# EAGLE library part AS-ITM-00077 (library tinycircuits)
Telit JF2 GPS Module
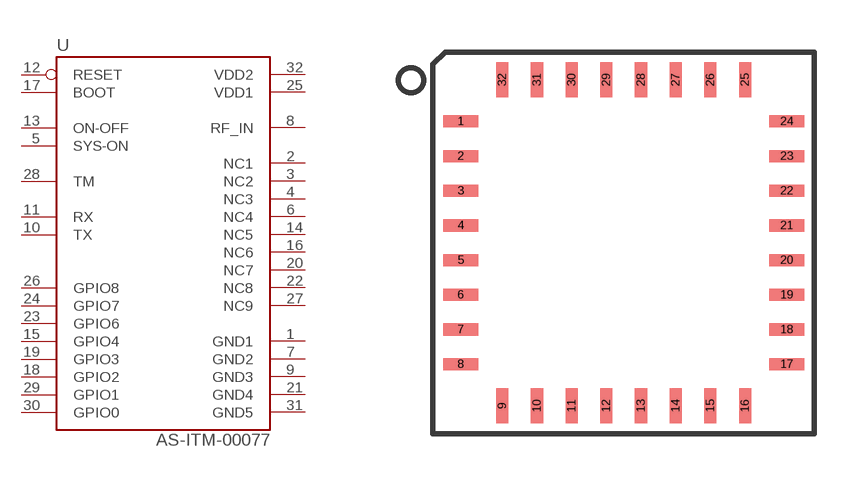
[diagram p28: symbol with the pads of JF2; footprint JF2]

Designator prefix U

## AS-ITM-00077 (PARTNO: AS-ITM-00077; VALUE: JF2)  [JF2]
1  GND1  pwr
2  NC1
3  NC2
4  NC3
5  SYS-ON
6  NC4
7  GND2  pwr
8  RF_IN
9  GND3  pwr
10  TX
11  RX
12  RESET
13  ON-OFF
14  NC5
15  GPIO4
16  NC6
17  BOOT
18  GPIO2
19  GPIO3
20  NC7
21  GND4  pwr
22  NC8
23  GPIO6
24  GPIO7
25  VDD1  pwr
26  GPIO8
27  NC9
28  TM
29  GPIO1
30  GPIO0
31  GND5  pwr
32  VDD2  pwr

## Footprint JF2 (pad centres in mm)
smd 1 x 0.35: 1 -4.7,3.5; 2 -4.7,2.5; 3 -4.7,1.5; 4 -4.7,0.5; 5 -4.7,-0.5; 6 -4.7,-1.5; 7 -4.7,-2.5; 8 -4.7,-3.5; 17 4.7,-3.5; 18 4.7,-2.5; 19 4.7,-1.5; 20 4.7,-0.5; 21 4.7,0.5; 22 4.7,1.5; 23 4.7,2.5; 24 4.7,3.5
smd 0.35 x 1: 9 -3.5,-4.7; 10 -2.5,-4.7; 11 -1.5,-4.7; 12 -0.5,-4.7; 13 0.5,-4.7; 14 1.5,-4.7; 15 2.5,-4.7; 16 3.5,-4.7; 25 3.5,4.7; 26 2.5,4.7; 27 1.5,4.7; 28 0.5,4.7; 29 -0.5,4.7; 30 -1.5,4.7; 31 -2.5,4.7; 32 -3.5,4.7